# EAGLE library part DRV8800 (library motor-drivers)
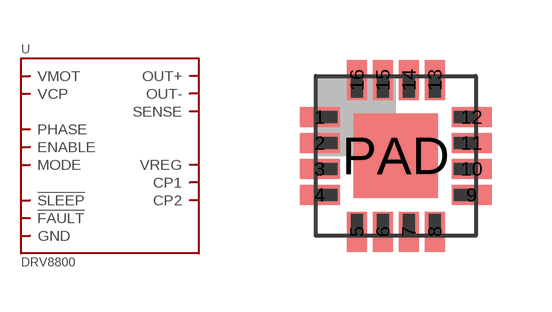
[diagram p7: symbol with the pads of RTY.16; footprint RTY.16]

Designator prefix U

## DRV8800.RTY  [RTY.16]
1  PHASE
2  GND
3  !SLEEP
4  ENABLE
6  OUT+
7  SENSE
8  VMOT
9  OUT-
10  CP1
11  CP2
12  GND
13  VCP
14  VREG
15  !FAULT
16  MODE
PAD  GND

## Footprint RTY.16 (pad centres in mm)
smd 1 x 0.5: 1 -1.9,0.975; 2 -1.9,0.325; 3 -1.9,-0.325; 4 -1.9,-0.975; 9 1.9,-0.975; 10 1.9,-0.325; 11 1.9,0.325; 12 1.9,0.975
smd 0.5 x 1: 5 -0.975,-1.9; 6 -0.325,-1.9; 7 0.325,-1.9; 8 0.975,-1.9; 13 0.975,1.9; 14 0.325,1.9; 15 -0.325,1.9; 16 -0.975,1.9
smd 2.1 x 2.1: PAD 0,0